# Altium integrated library Linear Technology Power Management Switching Regulator LT1074-LT8705.IntLib: 2252 symbols (part 46 of 148)
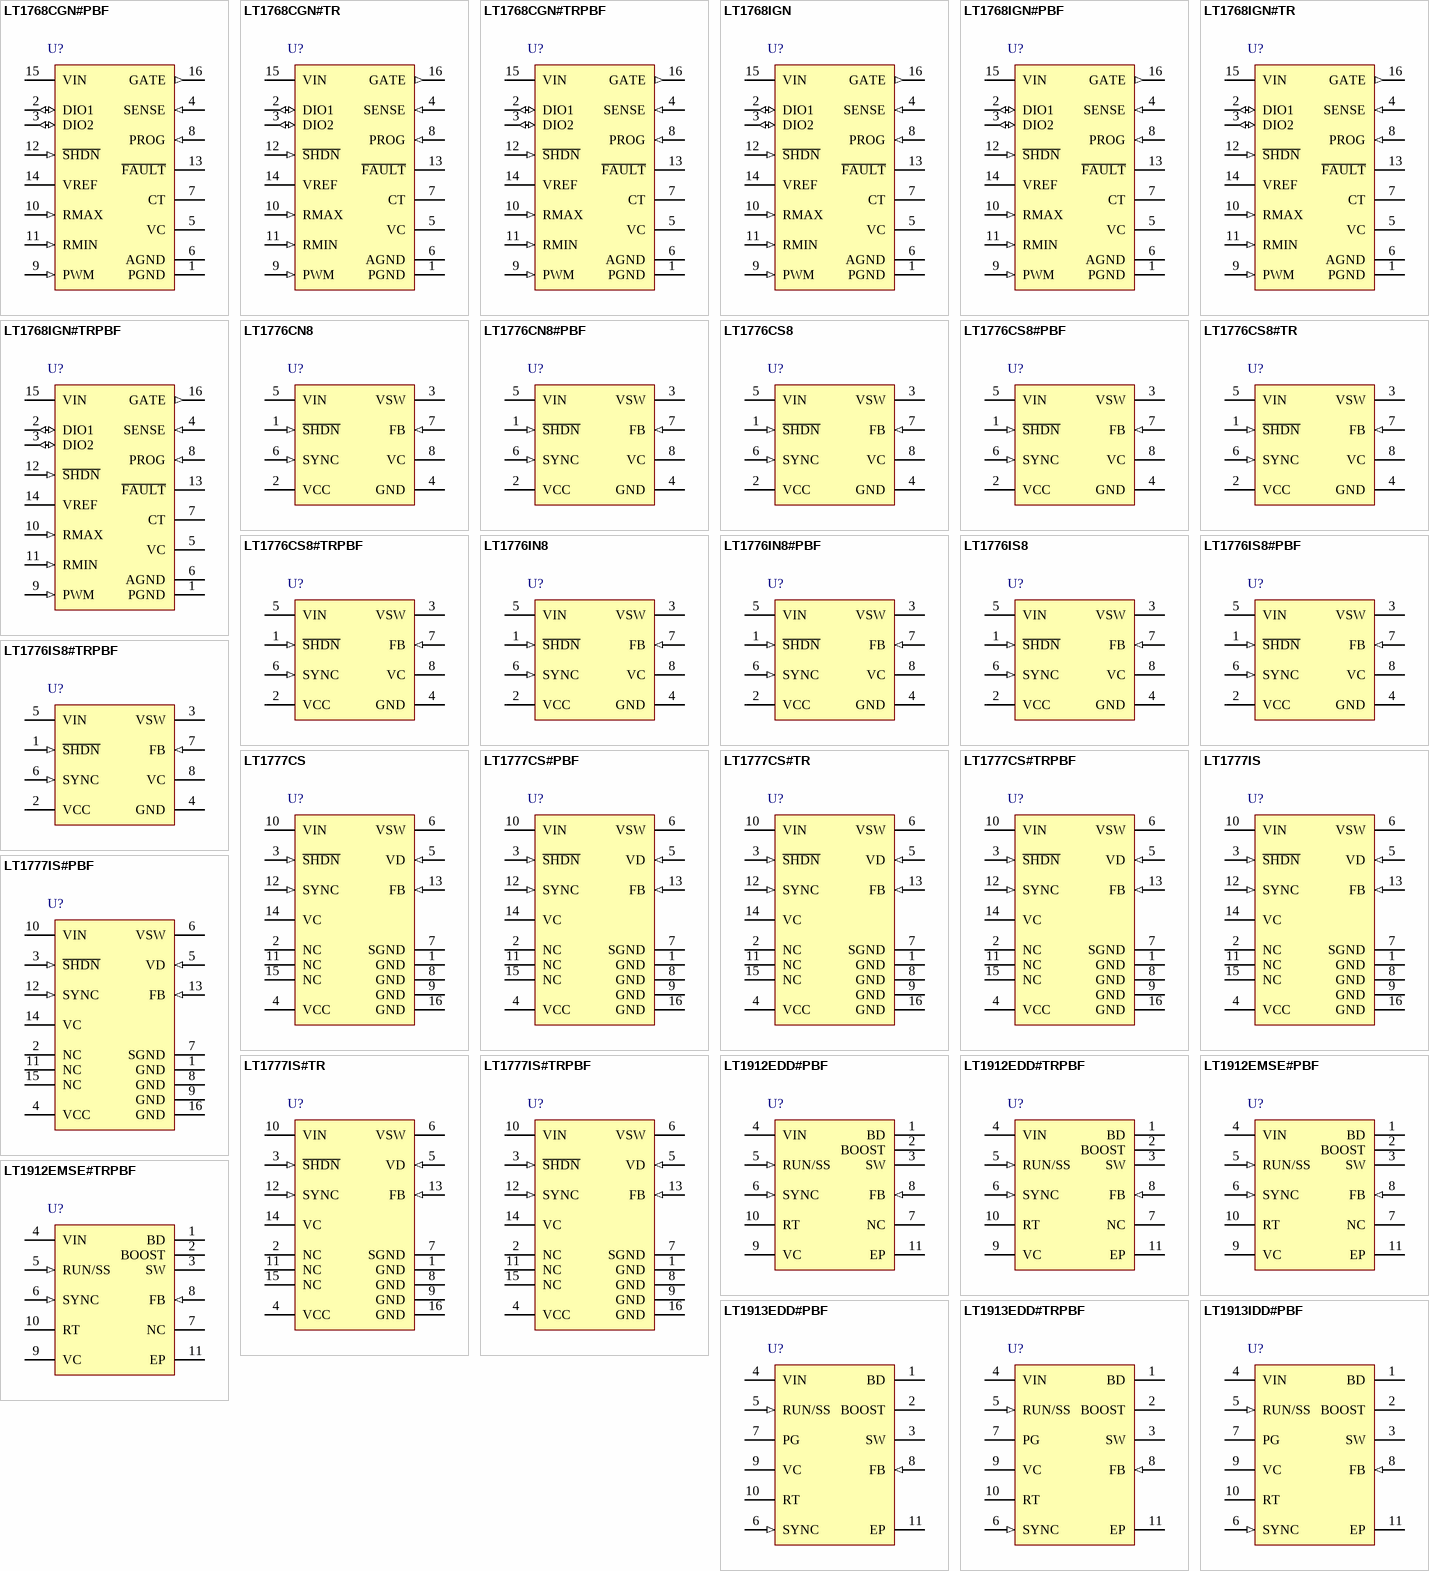
[diagram p116: symbols LT1768CGN#PBF to LT1913IDD#PBF]

## LT1768CGN#TR
designator U?
High Power CCFL Controller for Wide Dimming Range and Maximum Lamp Lifetime Max, 16-pin SOP (GN-16), 0 to 125 degC, Tape and Reel; Manufacturer: Linear Technology; PartNumber: LT1768CGN#TR; Number of Outputs: 1; PackageVersion: Rev. B, 03/2012; PackageReference: GN-16; PackageDescription: 16-Pin Plastic SSOP, Body 4.9 x 3.9 mm, Pitch 0.635 mm; Supplier 1: Digi-Key; Supplier Part Number 1: LT1768CGN#TR-ND; Packing: Tape and Reel; RoHS: FALSE; Mounting Technology: Surface Mount; ComponentLink1Description: Manufacturer URL; ComponentLink1URL: http://www.linear.com/; ComponentLink2Description: Datasheet; ComponentLink2URL: http://cds.linear.com/docs/en/datasheet/lt1768fs.pdf; ComponentLink3Description: Package Specification; ComponentLink3URL: http://cds.linear.com/docs/en/packaging/05081641_B_GN16.pdf
footprint LT-GN-16_N (SOP, 16-Leads, Body 5x4mm, Pitch 0.635mm, IPC Medium Density)
footprint LT-GN-16_L (SOP, 16-Leads, Body 5x4mm, Pitch 0.635mm, IPC High Density)
footprint LT-GN-16_M (SOP, 16-Leads, Body 5x4mm, Pitch 0.635mm, IPC Low Density)
pins: 1 PGND (power) "The PGND pin is the high current ground path. High switching current transients and lamp current flow through the PGND pin.", 2 DIO1 (io) "Each DIO pin is the common connection between the cathode and anode of two internal diodes. The remaining terminals of the diodes are connected to PGND. In a typical application, the DIO1/2 pins are connected to the low (See Datasheet)", 3 DIO2 (io) "Each DIO pin is the common connection between the cathode and anode of two internal diodes. The remaining terminals of the diodes are connected to PGND. In a typical application, the DIO1/2 pins are connected to the low (See Datasheet)", 4 SENSE (in) "The SENSE pin is the input to the current sense comparator. The threshold of the comparator is a function of the voltage on the VC pin and the switch duty cycle. The maximum threshold is set at 100mV for duty cycle less than (See Datasheet)", 5 VC "The VC pin is the summing junction for the programming current and the half wave rectified lamp current and is also an input to the current sense comparator . A fraction of the voltage on the VC pin is compared to the (See Datasheet)", 6 AGND (power) "The AGND pin is the low current analog ground. It is the negative sense terminal for the internal reference and current sense amplifier. Connect critical external components that terminate to ground directly to this pin for (See Datasheet)", 7 CT "The value of capacitance on the CT pin determines the PWM modulation frequency. The transfer function of capacitance to frequency equals 22Hz/CT(uF). The frequency present on the CT pin also determines the maximum time (See Datasheet)", 8 PROG (in) "The PROG pin controls the lamp current by converting a DC input voltage range of 0V to 5V to source current into the VC pin. The transfer function from programming voltage to VC current is illustrated in the following table.", 9 PWM (in) "The PWM pin controls the percentage of the PROG range between 1V and 4V that is to be pulse width modulated. The percentage is defined by [(VPWM-1)/ 3] ?100%. The minimum and maximum percentages are 25% (1.75V) and 100(See Datasheet)", 10 RMAX (in) "The RMAX pin outputs a regulated voltage of 1.25V that is to be loaded with an external resistor. The current through the external resistor sets the maximum lamp current. Maximum lamp current in a dual lamp application will (See Datasheet)", 11 RMIN (in) "The RMIN pin outputs a regulated voltage of 1.26V that is to be loaded with an external resistor. The current through the external resistor sets the minimum lamp current. Minimum lamp current in a dual lamp application will (See Datasheet)", 12 ~{SHDN} (in) "The S\H\D\N\ pin controls the operation of the LT1768. Pulling the S\H\D\N\ pin above 1.26V or leaving the pin open will result in normal operation of the LT1768. Pulling the S\H\D\N\ pin below 1V causes a complete shutdown (See Datasheet)", 13 ~{FAULT} (oc) "The F\A\U\L\T\ pin is an open collector output with a sink capability of 1mA that is activated when lamp current falls below 125uA in either DIO1 or DIO2 for at least 1 full PWM cycle.", 14 VREF (power) "The VREF pin is a regulated 5V output that is derived from the VIN pin. The regulated voltage provides up to 10mA of current to power external circuitry. During undervoltage lockout, shutdown mode or thermal shutdown, drive (See Datasheet)", 15 VIN (power) "The VIN pin is the voltage supply pin for the LT1768. For normal operation, the VIN pin must be above an undervoltage lockout of 7.9V and below a maximum of 24V.", 16 GATE (out) "The GATE pin is the output of a NPN high current output stage used to drive the gate of an external MOSFET. It has a dynamic source and sink capability of 1.5A. During normal operation, the GATE pin is driven high at the (See Datasheet)"

## LT1768CGN#TRPBF
designator U?
High Power CCFL Controller for Wide Dimming Range and Maximum Lamp Lifetime Max, 16-pin SOP (GN-16), 0 to 125 degC, Pb-Free, Tape and Reel; Manufacturer: Linear Technology; PartNumber: LT1768CGN#TRPBF; Number of Outputs: 1; PackageVersion: Rev. B, 03/2012; PackageReference: GN-16; PackageDescription: 16-Pin Plastic SSOP, Body 4.9 x 3.9 mm, Pitch 0.635 mm; Supplier 1: Digi-Key; Supplier Part Number 1: LT1768CGN#TRPBF-ND; Packing: Tape and Reel; RoHS: TRUE; Mounting Technology: Surface Mount; ComponentLink1Description: Manufacturer URL; ComponentLink1URL: http://www.linear.com/; ComponentLink2Description: Datasheet; ComponentLink2URL: http://cds.linear.com/docs/en/datasheet/lt1768fs.pdf; ComponentLink3Description: Package Specification; ComponentLink3URL: http://cds.linear.com/docs/en/packaging/05081641_B_GN16.pdf
footprint LT-GN-16_N (SOP, 16-Leads, Body 5x4mm, Pitch 0.635mm, IPC Medium Density)
footprint LT-GN-16_L (SOP, 16-Leads, Body 5x4mm, Pitch 0.635mm, IPC High Density)
footprint LT-GN-16_M (SOP, 16-Leads, Body 5x4mm, Pitch 0.635mm, IPC Low Density)
pins: 1 PGND (power) "The PGND pin is the high current ground path. High switching current transients and lamp current flow through the PGND pin.", 2 DIO1 (io) "Each DIO pin is the common connection between the cathode and anode of two internal diodes. The remaining terminals of the diodes are connected to PGND. In a typical application, the DIO1/2 pins are connected to the low (See Datasheet)", 3 DIO2 (io) "Each DIO pin is the common connection between the cathode and anode of two internal diodes. The remaining terminals of the diodes are connected to PGND. In a typical application, the DIO1/2 pins are connected to the low (See Datasheet)", 4 SENSE (in) "The SENSE pin is the input to the current sense comparator. The threshold of the comparator is a function of the voltage on the VC pin and the switch duty cycle. The maximum threshold is set at 100mV for duty cycle less than (See Datasheet)", 5 VC "The VC pin is the summing junction for the programming current and the half wave rectified lamp current and is also an input to the current sense comparator . A fraction of the voltage on the VC pin is compared to the (See Datasheet)", 6 AGND (power) "The AGND pin is the low current analog ground. It is the negative sense terminal for the internal reference and current sense amplifier. Connect critical external components that terminate to ground directly to this pin for (See Datasheet)", 7 CT "The value of capacitance on the CT pin determines the PWM modulation frequency. The transfer function of capacitance to frequency equals 22Hz/CT(uF). The frequency present on the CT pin also determines the maximum time (See Datasheet)", 8 PROG (in) "The PROG pin controls the lamp current by converting a DC input voltage range of 0V to 5V to source current into the VC pin. The transfer function from programming voltage to VC current is illustrated in the following table.", 9 PWM (in) "The PWM pin controls the percentage of the PROG range between 1V and 4V that is to be pulse width modulated. The percentage is defined by [(VPWM-1)/ 3] ?100%. The minimum and maximum percentages are 25% (1.75V) and 100(See Datasheet)", 10 RMAX (in) "The RMAX pin outputs a regulated voltage of 1.25V that is to be loaded with an external resistor. The current through the external resistor sets the maximum lamp current. Maximum lamp current in a dual lamp application will (See Datasheet)", 11 RMIN (in) "The RMIN pin outputs a regulated voltage of 1.26V that is to be loaded with an external resistor. The current through the external resistor sets the minimum lamp current. Minimum lamp current in a dual lamp application will (See Datasheet)", 12 ~{SHDN} (in) "The S\H\D\N\ pin controls the operation of the LT1768. Pulling the S\H\D\N\ pin above 1.26V or leaving the pin open will result in normal operation of the LT1768. Pulling the S\H\D\N\ pin below 1V causes a complete shutdown (See Datasheet)", 13 ~{FAULT} (oc) "The F\A\U\L\T\ pin is an open collector output with a sink capability of 1mA that is activated when lamp current falls below 125uA in either DIO1 or DIO2 for at least 1 full PWM cycle.", 14 VREF (power) "The VREF pin is a regulated 5V output that is derived from the VIN pin. The regulated voltage provides up to 10mA of current to power external circuitry. During undervoltage lockout, shutdown mode or thermal shutdown, drive (See Datasheet)", 15 VIN (power) "The VIN pin is the voltage supply pin for the LT1768. For normal operation, the VIN pin must be above an undervoltage lockout of 7.9V and below a maximum of 24V.", 16 GATE (out) "The GATE pin is the output of a NPN high current output stage used to drive the gate of an external MOSFET. It has a dynamic source and sink capability of 1.5A. During normal operation, the GATE pin is driven high at the (See Datasheet)"

## LT1768IGN
designator U?
High Power CCFL Controller for Wide Dimming Range and Maximum Lamp Lifetime Max, 16-pin SOP (GN-16), -40 to 125 degC; Manufacturer: Linear Technology; PartNumber: LT1768IGN; Number of Outputs: 1; PackageVersion: Rev. B, 03/2012; PackageReference: GN-16; PackageDescription: 16-Pin Plastic SSOP, Body 4.9 x 3.9 mm, Pitch 0.635 mm; Supplier 1: Digi-Key; Supplier Part Number 1: LT1768IGN-ND; RoHS: FALSE; Mounting Technology: Surface Mount; ComponentLink1Description: Manufacturer URL; ComponentLink1URL: http://www.linear.com/; ComponentLink2Description: Datasheet; ComponentLink2URL: http://cds.linear.com/docs/en/datasheet/lt1768fs.pdf; ComponentLink3Description: Package Specification; ComponentLink3URL: http://cds.linear.com/docs/en/packaging/05081641_B_GN16.pdf
footprint LT-GN-16_N (SOP, 16-Leads, Body 5x4mm, Pitch 0.635mm, IPC Medium Density)
footprint LT-GN-16_L (SOP, 16-Leads, Body 5x4mm, Pitch 0.635mm, IPC High Density)
footprint LT-GN-16_M (SOP, 16-Leads, Body 5x4mm, Pitch 0.635mm, IPC Low Density)
pins: 1 PGND (power) "The PGND pin is the high current ground path. High switching current transients and lamp current flow through the PGND pin.", 2 DIO1 (io) "Each DIO pin is the common connection between the cathode and anode of two internal diodes. The remaining terminals of the diodes are connected to PGND. In a typical application, the DIO1/2 pins are connected to the low (See Datasheet)", 3 DIO2 (io) "Each DIO pin is the common connection between the cathode and anode of two internal diodes. The remaining terminals of the diodes are connected to PGND. In a typical application, the DIO1/2 pins are connected to the low (See Datasheet)", 4 SENSE (in) "The SENSE pin is the input to the current sense comparator. The threshold of the comparator is a function of the voltage on the VC pin and the switch duty cycle. The maximum threshold is set at 100mV for duty cycle less than (See Datasheet)", 5 VC "The VC pin is the summing junction for the programming current and the half wave rectified lamp current and is also an input to the current sense comparator . A fraction of the voltage on the VC pin is compared to the (See Datasheet)", 6 AGND (power) "The AGND pin is the low current analog ground. It is the negative sense terminal for the internal reference and current sense amplifier. Connect critical external components that terminate to ground directly to this pin for (See Datasheet)", 7 CT "The value of capacitance on the CT pin determines the PWM modulation frequency. The transfer function of capacitance to frequency equals 22Hz/CT(uF). The frequency present on the CT pin also determines the maximum time (See Datasheet)", 8 PROG (in) "The PROG pin controls the lamp current by converting a DC input voltage range of 0V to 5V to source current into the VC pin. The transfer function from programming voltage to VC current is illustrated in the following table.", 9 PWM (in) "The PWM pin controls the percentage of the PROG range between 1V and 4V that is to be pulse width modulated. The percentage is defined by [(VPWM-1)/ 3] ?100%. The minimum and maximum percentages are 25% (1.75V) and 100(See Datasheet)", 10 RMAX (in) "The RMAX pin outputs a regulated voltage of 1.25V that is to be loaded with an external resistor. The current through the external resistor sets the maximum lamp current. Maximum lamp current in a dual lamp application will (See Datasheet)", 11 RMIN (in) "The RMIN pin outputs a regulated voltage of 1.26V that is to be loaded with an external resistor. The current through the external resistor sets the minimum lamp current. Minimum lamp current in a dual lamp application will (See Datasheet)", 12 ~{SHDN} (in) "The S\H\D\N\ pin controls the operation of the LT1768. Pulling the S\H\D\N\ pin above 1.26V or leaving the pin open will result in normal operation of the LT1768. Pulling the S\H\D\N\ pin below 1V causes a complete shutdown (See Datasheet)", 13 ~{FAULT} (oc) "The F\A\U\L\T\ pin is an open collector output with a sink capability of 1mA that is activated when lamp current falls below 125uA in either DIO1 or DIO2 for at least 1 full PWM cycle.", 14 VREF (power) "The VREF pin is a regulated 5V output that is derived from the VIN pin. The regulated voltage provides up to 10mA of current to power external circuitry. During undervoltage lockout, shutdown mode or thermal shutdown, drive (See Datasheet)", 15 VIN (power) "The VIN pin is the voltage supply pin for the LT1768. For normal operation, the VIN pin must be above an undervoltage lockout of 7.9V and below a maximum of 24V.", 16 GATE (out) "The GATE pin is the output of a NPN high current output stage used to drive the gate of an external MOSFET. It has a dynamic source and sink capability of 1.5A. During normal operation, the GATE pin is driven high at the (See Datasheet)"

## LT1768IGN#PBF
designator U?
High Power CCFL Controller for Wide Dimming Range and Maximum Lamp Lifetime Max, 16-pin SOP (GN-16), -40 to 125 degC, Pb-Free; Manufacturer: Linear Technology; PartNumber: LT1768IGN#PBF; Number of Outputs: 1; PackageVersion: Rev. B, 03/2012; PackageReference: GN-16; PackageDescription: 16-Pin Plastic SSOP, Body 4.9 x 3.9 mm, Pitch 0.635 mm; Supplier 1: Digi-Key; Supplier Part Number 1: LT1768IGN#PBF-ND; Supplier 2: Newark; Supplier Part Number 2: 57M6286; RoHS: TRUE; Mounting Technology: Surface Mount; ComponentLink1Description: Manufacturer URL; ComponentLink1URL: http://www.linear.com/; ComponentLink2Description: Datasheet; ComponentLink2URL: http://cds.linear.com/docs/en/datasheet/lt1768fs.pdf; ComponentLink3Description: Package Specification; ComponentLink3URL: http://cds.linear.com/docs/en/packaging/05081641_B_GN16.pdf
footprint LT-GN-16_N (SOP, 16-Leads, Body 5x4mm, Pitch 0.635mm, IPC Medium Density)
footprint LT-GN-16_L (SOP, 16-Leads, Body 5x4mm, Pitch 0.635mm, IPC High Density)
footprint LT-GN-16_M (SOP, 16-Leads, Body 5x4mm, Pitch 0.635mm, IPC Low Density)
pins: 1 PGND (power) "The PGND pin is the high current ground path. High switching current transients and lamp current flow through the PGND pin.", 2 DIO1 (io) "Each DIO pin is the common connection between the cathode and anode of two internal diodes. The remaining terminals of the diodes are connected to PGND. In a typical application, the DIO1/2 pins are connected to the low (See Datasheet)", 3 DIO2 (io) "Each DIO pin is the common connection between the cathode and anode of two internal diodes. The remaining terminals of the diodes are connected to PGND. In a typical application, the DIO1/2 pins are connected to the low (See Datasheet)", 4 SENSE (in) "The SENSE pin is the input to the current sense comparator. The threshold of the comparator is a function of the voltage on the VC pin and the switch duty cycle. The maximum threshold is set at 100mV for duty cycle less than (See Datasheet)", 5 VC "The VC pin is the summing junction for the programming current and the half wave rectified lamp current and is also an input to the current sense comparator . A fraction of the voltage on the VC pin is compared to the (See Datasheet)", 6 AGND (power) "The AGND pin is the low current analog ground. It is the negative sense terminal for the internal reference and current sense amplifier. Connect critical external components that terminate to ground directly to this pin for (See Datasheet)", 7 CT "The value of capacitance on the CT pin determines the PWM modulation frequency. The transfer function of capacitance to frequency equals 22Hz/CT(uF). The frequency present on the CT pin also determines the maximum time (See Datasheet)", 8 PROG (in) "The PROG pin controls the lamp current by converting a DC input voltage range of 0V to 5V to source current into the VC pin. The transfer function from programming voltage to VC current is illustrated in the following table.", 9 PWM (in) "The PWM pin controls the percentage of the PROG range between 1V and 4V that is to be pulse width modulated. The percentage is defined by [(VPWM-1)/ 3] ?100%. The minimum and maximum percentages are 25% (1.75V) and 100(See Datasheet)", 10 RMAX (in) "The RMAX pin outputs a regulated voltage of 1.25V that is to be loaded with an external resistor. The current through the external resistor sets the maximum lamp current. Maximum lamp current in a dual lamp application will (See Datasheet)", 11 RMIN (in) "The RMIN pin outputs a regulated voltage of 1.26V that is to be loaded with an external resistor. The current through the external resistor sets the minimum lamp current. Minimum lamp current in a dual lamp application will (See Datasheet)", 12 ~{SHDN} (in) "The S\H\D\N\ pin controls the operation of the LT1768. Pulling the S\H\D\N\ pin above 1.26V or leaving the pin open will result in normal operation of the LT1768. Pulling the S\H\D\N\ pin below 1V causes a complete shutdown (See Datasheet)", 13 ~{FAULT} (oc) "The F\A\U\L\T\ pin is an open collector output with a sink capability of 1mA that is activated when lamp current falls below 125uA in either DIO1 or DIO2 for at least 1 full PWM cycle.", 14 VREF (power) "The VREF pin is a regulated 5V output that is derived from the VIN pin. The regulated voltage provides up to 10mA of current to power external circuitry. During undervoltage lockout, shutdown mode or thermal shutdown, drive (See Datasheet)", 15 VIN (power) "The VIN pin is the voltage supply pin for the LT1768. For normal operation, the VIN pin must be above an undervoltage lockout of 7.9V and below a maximum of 24V.", 16 GATE (out) "The GATE pin is the output of a NPN high current output stage used to drive the gate of an external MOSFET. It has a dynamic source and sink capability of 1.5A. During normal operation, the GATE pin is driven high at the (See Datasheet)"

## LT1768IGN#TR
designator U?
High Power CCFL Controller for Wide Dimming Range and Maximum Lamp Lifetime Max, 16-pin SOP (GN-16), -40 to 125 degC, Tape and Reel; Manufacturer: Linear Technology; PartNumber: LT1768IGN#TR; Number of Outputs: 1; PackageVersion: Rev. B, 03/2012; PackageReference: GN-16; PackageDescription: 16-Pin Plastic SSOP, Body 4.9 x 3.9 mm, Pitch 0.635 mm; Supplier 1: Digi-Key; Supplier Part Number 1: LT1768IGN#TR-ND; Packing: Tape and Reel; RoHS: FALSE; Mounting Technology: Surface Mount; ComponentLink1Description: Manufacturer URL; ComponentLink1URL: http://www.linear.com/; ComponentLink2Description: Datasheet; ComponentLink2URL: http://cds.linear.com/docs/en/datasheet/lt1768fs.pdf; ComponentLink3Description: Package Specification; ComponentLink3URL: http://cds.linear.com/docs/en/packaging/05081641_B_GN16.pdf
footprint LT-GN-16_N (SOP, 16-Leads, Body 5x4mm, Pitch 0.635mm, IPC Medium Density)
footprint LT-GN-16_L (SOP, 16-Leads, Body 5x4mm, Pitch 0.635mm, IPC High Density)
footprint LT-GN-16_M (SOP, 16-Leads, Body 5x4mm, Pitch 0.635mm, IPC Low Density)
pins: 1 PGND (power) "The PGND pin is the high current ground path. High switching current transients and lamp current flow through the PGND pin.", 2 DIO1 (io) "Each DIO pin is the common connection between the cathode and anode of two internal diodes. The remaining terminals of the diodes are connected to PGND. In a typical application, the DIO1/2 pins are connected to the low (See Datasheet)", 3 DIO2 (io) "Each DIO pin is the common connection between the cathode and anode of two internal diodes. The remaining terminals of the diodes are connected to PGND. In a typical application, the DIO1/2 pins are connected to the low (See Datasheet)", 4 SENSE (in) "The SENSE pin is the input to the current sense comparator. The threshold of the comparator is a function of the voltage on the VC pin and the switch duty cycle. The maximum threshold is set at 100mV for duty cycle less than (See Datasheet)", 5 VC "The VC pin is the summing junction for the programming current and the half wave rectified lamp current and is also an input to the current sense comparator . A fraction of the voltage on the VC pin is compared to the (See Datasheet)", 6 AGND (power) "The AGND pin is the low current analog ground. It is the negative sense terminal for the internal reference and current sense amplifier. Connect critical external components that terminate to ground directly to this pin for (See Datasheet)", 7 CT "The value of capacitance on the CT pin determines the PWM modulation frequency. The transfer function of capacitance to frequency equals 22Hz/CT(uF). The frequency present on the CT pin also determines the maximum time (See Datasheet)", 8 PROG (in) "The PROG pin controls the lamp current by converting a DC input voltage range of 0V to 5V to source current into the VC pin. The transfer function from programming voltage to VC current is illustrated in the following table.", 9 PWM (in) "The PWM pin controls the percentage of the PROG range between 1V and 4V that is to be pulse width modulated. The percentage is defined by [(VPWM-1)/ 3] ?100%. The minimum and maximum percentages are 25% (1.75V) and 100(See Datasheet)", 10 RMAX (in) "The RMAX pin outputs a regulated voltage of 1.25V that is to be loaded with an external resistor. The current through the external resistor sets the maximum lamp current. Maximum lamp current in a dual lamp application will (See Datasheet)", 11 RMIN (in) "The RMIN pin outputs a regulated voltage of 1.26V that is to be loaded with an external resistor. The current through the external resistor sets the minimum lamp current. Minimum lamp current in a dual lamp application will (See Datasheet)", 12 ~{SHDN} (in) "The S\H\D\N\ pin controls the operation of the LT1768. Pulling the S\H\D\N\ pin above 1.26V or leaving the pin open will result in normal operation of the LT1768. Pulling the S\H\D\N\ pin below 1V causes a complete shutdown (See Datasheet)", 13 ~{FAULT} (oc) "The F\A\U\L\T\ pin is an open collector output with a sink capability of 1mA that is activated when lamp current falls below 125uA in either DIO1 or DIO2 for at least 1 full PWM cycle.", 14 VREF (power) "The VREF pin is a regulated 5V output that is derived from the VIN pin. The regulated voltage provides up to 10mA of current to power external circuitry. During undervoltage lockout, shutdown mode or thermal shutdown, drive (See Datasheet)", 15 VIN (power) "The VIN pin is the voltage supply pin for the LT1768. For normal operation, the VIN pin must be above an undervoltage lockout of 7.9V and below a maximum of 24V.", 16 GATE (out) "The GATE pin is the output of a NPN high current output stage used to drive the gate of an external MOSFET. It has a dynamic source and sink capability of 1.5A. During normal operation, the GATE pin is driven high at the (See Datasheet)"

## LT1768IGN#TRPBF
designator U?
High Power CCFL Controller for Wide Dimming Range and Maximum Lamp Lifetime Max, 16-pin SOP (GN-16), -40 to 125 degC, Pb-Free, Tape and Reel; Manufacturer: Linear Technology; PartNumber: LT1768IGN#TRPBF; Number of Outputs: 1; PackageVersion: Rev. B, 03/2012; PackageReference: GN-16; PackageDescription: 16-Pin Plastic SSOP, Body 4.9 x 3.9 mm, Pitch 0.635 mm; Supplier 1: Digi-Key; Supplier Part Number 1: LT1768IGN#TRPBF-ND; Packing: Tape and Reel; RoHS: TRUE; Mounting Technology: Surface Mount; ComponentLink1Description: Manufacturer URL; ComponentLink1URL: http://www.linear.com/; ComponentLink2Description: Datasheet; ComponentLink2URL: http://cds.linear.com/docs/en/datasheet/lt1768fs.pdf; ComponentLink3Description: Package Specification; ComponentLink3URL: http://cds.linear.com/docs/en/packaging/05081641_B_GN16.pdf
footprint LT-GN-16_N (SOP, 16-Leads, Body 5x4mm, Pitch 0.635mm, IPC Medium Density)
footprint LT-GN-16_L (SOP, 16-Leads, Body 5x4mm, Pitch 0.635mm, IPC High Density)
footprint LT-GN-16_M (SOP, 16-Leads, Body 5x4mm, Pitch 0.635mm, IPC Low Density)
pins: 1 PGND (power) "The PGND pin is the high current ground path. High switching current transients and lamp current flow through the PGND pin.", 2 DIO1 (io) "Each DIO pin is the common connection between the cathode and anode of two internal diodes. The remaining terminals of the diodes are connected to PGND. In a typical application, the DIO1/2 pins are connected to the low (See Datasheet)", 3 DIO2 (io) "Each DIO pin is the common connection between the cathode and anode of two internal diodes. The remaining terminals of the diodes are connected to PGND. In a typical application, the DIO1/2 pins are connected to the low (See Datasheet)", 4 SENSE (in) "The SENSE pin is the input to the current sense comparator. The threshold of the comparator is a function of the voltage on the VC pin and the switch duty cycle. The maximum threshold is set at 100mV for duty cycle less than (See Datasheet)", 5 VC "The VC pin is the summing junction for the programming current and the half wave rectified lamp current and is also an input to the current sense comparator . A fraction of the voltage on the VC pin is compared to the (See Datasheet)", 6 AGND (power) "The AGND pin is the low current analog ground. It is the negative sense terminal for the internal reference and current sense amplifier. Connect critical external components that terminate to ground directly to this pin for (See Datasheet)", 7 CT "The value of capacitance on the CT pin determines the PWM modulation frequency. The transfer function of capacitance to frequency equals 22Hz/CT(uF). The frequency present on the CT pin also determines the maximum time (See Datasheet)", 8 PROG (in) "The PROG pin controls the lamp current by converting a DC input voltage range of 0V to 5V to source current into the VC pin. The transfer function from programming voltage to VC current is illustrated in the following table.", 9 PWM (in) "The PWM pin controls the percentage of the PROG range between 1V and 4V that is to be pulse width modulated. The percentage is defined by [(VPWM-1)/ 3] ?100%. The minimum and maximum percentages are 25% (1.75V) and 100(See Datasheet)", 10 RMAX (in) "The RMAX pin outputs a regulated voltage of 1.25V that is to be loaded with an external resistor. The current through the external resistor sets the maximum lamp current. Maximum lamp current in a dual lamp application will (See Datasheet)", 11 RMIN (in) "The RMIN pin outputs a regulated voltage of 1.26V that is to be loaded with an external resistor. The current through the external resistor sets the minimum lamp current. Minimum lamp current in a dual lamp application will (See Datasheet)", 12 ~{SHDN} (in) "The S\H\D\N\ pin controls the operation of the LT1768. Pulling the S\H\D\N\ pin above 1.26V or leaving the pin open will result in normal operation of the LT1768. Pulling the S\H\D\N\ pin below 1V causes a complete shutdown (See Datasheet)", 13 ~{FAULT} (oc) "The F\A\U\L\T\ pin is an open collector output with a sink capability of 1mA that is activated when lamp current falls below 125uA in either DIO1 or DIO2 for at least 1 full PWM cycle.", 14 VREF (power) "The VREF pin is a regulated 5V output that is derived from the VIN pin. The regulated voltage provides up to 10mA of current to power external circuitry. During undervoltage lockout, shutdown mode or thermal shutdown, drive (See Datasheet)", 15 VIN (power) "The VIN pin is the voltage supply pin for the LT1768. For normal operation, the VIN pin must be above an undervoltage lockout of 7.9V and below a maximum of 24V.", 16 GATE (out) "The GATE pin is the output of a NPN high current output stage used to drive the gate of an external MOSFET. It has a dynamic source and sink capability of 1.5A. During normal operation, the GATE pin is driven high at the (See Datasheet)"

## LT1776CN8
designator U?
Wide Input Range, High Efficiency, Step-Down Switching Regulator, 8-pin DIP (N8-8), 0 to 125 degC; Manufacturer: Linear Technology; PartNumber: LT1776CN8; Frequency Sync Range: 250kHz - 400kHz; Number of Outputs: 1; Over Voltage Protection(V): 60; PackageVersion: Rev. I, 07/2011; PackageReference: N8-8; PackageDescription: 8-Pin PDIP, Body 10.16 x 6.48 mm, Pitch 2.54 mm; Supplier 1: Digi-Key; Supplier Part Number 1: LT1776CN8-ND; RoHS: FALSE; Mounting Technology: Through Hole; ComponentLink1Description: Manufacturer URL; ComponentLink1URL: http://www.linear.com/; ComponentLink2Description: Datasheet; ComponentLink2URL: http://cds.linear.com/docs/en/datasheet/1776fs.pdf; ComponentLink3Description: Package Specification; ComponentLink3URL: http://www.linear.com/docs/en/packaging/05081510_I_N8.pdf
footprint LT-N8-8 (DIP, 8-Leads, Body 10.15x6.85mm, Pitch 2.54mm)
pins: 1 ~{SHDN} (in) "When pulled below the shutdown mode threshold, nominally 0.30V, this pin turns off the regulator and reduces VIN input current to a few tens of microamperes (shutdown mode).", 2 VCC (power) "This pin is used to power the internal control circuitry off of the switching supply output. Proper use of this pin enhances overall power supply efficiency. During start-up conditions, internal control circuitry is powered (See Datasheet)", 3 VSW (power) "This is the emitter node of the output switch and has large currents flowing through it. This node moves at a high dV/dt rate, especially when in “boost” mode. Keep the traces to the switching components as short(See Datasheet)", 4 GND (power) "This is the device ground pin. The internal reference and feedback amplifier are referred to it. Keep the ground path connection to the FB divider and the VC compensation capacitor free of large ground currents.", 5 VIN (power) "This is the high voltage supply pin for the output switch. It also supplies power to the internal control circuitry during start-up conditions or if the VCC pin is left open. A high quality bypass capacitor which meets the (See Datasheet)", 6 SYNC (in) "Pin used to synchronize internal oscillator to the external frequency reference. It is directly logic compatible and can be driven with any signal between 10% and 90% duty cycle. The sync function is internally disabled if (See Datasheet)", 7 FB (in) "This is the inverting input to the feedback amplifier. The noninverting input of this amplifier is internally tied to the 1.24V reference. This pin also slows down the frequency of the internal oscillator when its voltage is (See Datasheet)", 8 VC "This is the control voltage pin which is the output of the feedback amplifier and the input of the current comparator. Frequency compensation of the overall loop is effected by placing a capacitor, (or in most cases a series (See Datasheet)"

## LT1776CN8#PBF
designator U?
Wide Input Range, High Efficiency, Step-Down Switching Regulator, 8-pin DIP (N8-8), 0 to 125 degC, Pb-Free; Manufacturer: Linear Technology; PartNumber: LT1776CN8#PBF; Frequency Sync Range: 250kHz - 400kHz; Number of Outputs: 1; Over Voltage Protection(V): 60; PackageVersion: Rev. I, 07/2011; PackageReference: N8-8; PackageDescription: 8-Pin PDIP, Body 10.16 x 6.48 mm, Pitch 2.54 mm; Supplier 1: Digi-Key; Supplier Part Number 1: LT1776CN8#PBF-ND; Supplier 2: Farnell; Supplier Part Number 2: 1663492; RoHS: TRUE; Mounting Technology: Through Hole; ComponentLink1Description: Manufacturer URL; ComponentLink1URL: http://www.linear.com/; ComponentLink2Description: Datasheet; ComponentLink2URL: http://cds.linear.com/docs/en/datasheet/1776fs.pdf; ComponentLink3Description: Package Specification; ComponentLink3URL: http://www.linear.com/docs/en/packaging/05081510_I_N8.pdf
footprint LT-N8-8 (DIP, 8-Leads, Body 10.15x6.85mm, Pitch 2.54mm)
pins: 1 ~{SHDN} (in) "When pulled below the shutdown mode threshold, nominally 0.30V, this pin turns off the regulator and reduces VIN input current to a few tens of microamperes (shutdown mode).", 2 VCC (power) "This pin is used to power the internal control circuitry off of the switching supply output. Proper use of this pin enhances overall power supply efficiency. During start-up conditions, internal control circuitry is powered (See Datasheet)", 3 VSW (power) "This is the emitter node of the output switch and has large currents flowing through it. This node moves at a high dV/dt rate, especially when in “boost” mode. Keep the traces to the switching components as short(See Datasheet)", 4 GND (power) "This is the device ground pin. The internal reference and feedback amplifier are referred to it. Keep the ground path connection to the FB divider and the VC compensation capacitor free of large ground currents.", 5 VIN (power) "This is the high voltage supply pin for the output switch. It also supplies power to the internal control circuitry during start-up conditions or if the VCC pin is left open. A high quality bypass capacitor which meets the (See Datasheet)", 6 SYNC (in) "Pin used to synchronize internal oscillator to the external frequency reference. It is directly logic compatible and can be driven with any signal between 10% and 90% duty cycle. The sync function is internally disabled if (See Datasheet)", 7 FB (in) "This is the inverting input to the feedback amplifier. The noninverting input of this amplifier is internally tied to the 1.24V reference. This pin also slows down the frequency of the internal oscillator when its voltage is (See Datasheet)", 8 VC "This is the control voltage pin which is the output of the feedback amplifier and the input of the current comparator. Frequency compensation of the overall loop is effected by placing a capacitor, (or in most cases a series (See Datasheet)"

## LT1776CS8
designator U?
Wide Input Range, High Efficiency, Step-Down Switching Regulator, 8-pin SOIC (S8-8), 0 to 125 degC, Tape and Reel; Manufacturer: Linear Technology; PartNumber: LT1776CS8; Frequency Sync Range: 250kHz - 400kHz; Number of Outputs: 1; Over Voltage Protection(V): 60; PackageVersion: Rev. G, 03/2012; PackageReference: S8-8; PackageDescription: 8-Pin Plastic Small Outline (Narrow .150 Inch), Body 4.9 x 3.9 mm, Pitch 1.27 mm; Supplier 1: Digi-Key; Supplier Part Number 1: LT1776CS8-ND; Supplier 2: Newark; Supplier Part Number 2: 75M1845; RoHS: FALSE; Mounting Technology: Surface Mount; ComponentLink1Description: Manufacturer URL; ComponentLink1URL: http://www.linear.com/; ComponentLink2Description: Datasheet; ComponentLink2URL: http://cds.linear.com/docs/en/datasheet/1776fs.pdf; ComponentLink3Description: Package Specification; ComponentLink3URL: http://cds.linear.com/docs/en/packaging/05081610_G_SO8.pdf
footprint LT-S8-8_N (SOIC, 8-Leads, Body 5x4mm, Pitch 1.27mm, IPC Medium Density)
footprint LT-S8-8_L (SOIC, 8-Leads, Body 5x4mm, Pitch 1.27mm, IPC High Density)
footprint LT-S8-8_M (SOIC, 8-Leads, Body 5x4mm, Pitch 1.27mm, IPC Low Density)
pins: 1 ~{SHDN} (in) "When pulled below the shutdown mode threshold, nominally 0.30V, this pin turns off the regulator and reduces VIN input current to a few tens of microamperes (shutdown mode).", 2 VCC (power) "This pin is used to power the internal control circuitry off of the switching supply output. Proper use of this pin enhances overall power supply efficiency. During start-up conditions, internal control circuitry is powered (See Datasheet)", 3 VSW (power) "This is the emitter node of the output switch and has large currents flowing through it. This node moves at a high dV/dt rate, especially when in “boost” mode. Keep the traces to the switching components as short(See Datasheet)", 4 GND (power) "This is the device ground pin. The internal reference and feedback amplifier are referred to it. Keep the ground path connection to the FB divider and the VC compensation capacitor free of large ground currents.", 5 VIN (power) "This is the high voltage supply pin for the output switch. It also supplies power to the internal control circuitry during start-up conditions or if the VCC pin is left open. A high quality bypass capacitor which meets the (See Datasheet)", 6 SYNC (in) "Pin used to synchronize internal oscillator to the external frequency reference. It is directly logic compatible and can be driven with any signal between 10% and 90% duty cycle. The sync function is internally disabled if (See Datasheet)", 7 FB (in) "This is the inverting input to the feedback amplifier. The noninverting input of this amplifier is internally tied to the 1.24V reference. This pin also slows down the frequency of the internal oscillator when its voltage is (See Datasheet)", 8 VC "This is the control voltage pin which is the output of the feedback amplifier and the input of the current comparator. Frequency compensation of the overall loop is effected by placing a capacitor, (or in most cases a series (See Datasheet)"

## LT1776CS8#PBF
designator U?
Wide Input Range, High Efficiency, Step-Down Switching Regulator, 8-pin SOIC (S8-8), 0 to 125 degC, Pb-Free; Manufacturer: Linear Technology; PartNumber: LT1776CS8#PBF; Frequency Sync Range: 250kHz - 400kHz; Number of Outputs: 1; Over Voltage Protection(V): 60; PackageVersion: Rev. G, 03/2012; PackageReference: S8-8; PackageDescription: 8-Pin Plastic Small Outline (Narrow .150 Inch), Body 4.9 x 3.9 mm, Pitch 1.27 mm; Supplier 1: Digi-Key; Supplier Part Number 1: LT1776CS8#PBF-ND; Supplier 2: Farnell; Supplier Part Number 2: 1273789; Supplier 3: Newark; Supplier Part Number 3: 57M6291; RoHS: TRUE; Mounting Technology: Surface Mount; ComponentLink1Description: Manufacturer URL; ComponentLink1URL: http://www.linear.com/; ComponentLink2Description: Datasheet; ComponentLink2URL: http://cds.linear.com/docs/en/datasheet/1776fs.pdf; ComponentLink3Description: Package Specification; ComponentLink3URL: http://cds.linear.com/docs/en/packaging/05081610_G_SO8.pdf
footprint LT-S8-8_N (SOIC, 8-Leads, Body 5x4mm, Pitch 1.27mm, IPC Medium Density)
footprint LT-S8-8_L (SOIC, 8-Leads, Body 5x4mm, Pitch 1.27mm, IPC High Density)
footprint LT-S8-8_M (SOIC, 8-Leads, Body 5x4mm, Pitch 1.27mm, IPC Low Density)
pins: 1 ~{SHDN} (in) "When pulled below the shutdown mode threshold, nominally 0.30V, this pin turns off the regulator and reduces VIN input current to a few tens of microamperes (shutdown mode).", 2 VCC (power) "This pin is used to power the internal control circuitry off of the switching supply output. Proper use of this pin enhances overall power supply efficiency. During start-up conditions, internal control circuitry is powered (See Datasheet)", 3 VSW (power) "This is the emitter node of the output switch and has large currents flowing through it. This node moves at a high dV/dt rate, especially when in “boost” mode. Keep the traces to the switching components as short(See Datasheet)", 4 GND (power) "This is the device ground pin. The internal reference and feedback amplifier are referred to it. Keep the ground path connection to the FB divider and the VC compensation capacitor free of large ground currents.", 5 VIN (power) "This is the high voltage supply pin for the output switch. It also supplies power to the internal control circuitry during start-up conditions or if the VCC pin is left open. A high quality bypass capacitor which meets the (See Datasheet)", 6 SYNC (in) "Pin used to synchronize internal oscillator to the external frequency reference. It is directly logic compatible and can be driven with any signal between 10% and 90% duty cycle. The sync function is internally disabled if (See Datasheet)", 7 FB (in) "This is the inverting input to the feedback amplifier. The noninverting input of this amplifier is internally tied to the 1.24V reference. This pin also slows down the frequency of the internal oscillator when its voltage is (See Datasheet)", 8 VC "This is the control voltage pin which is the output of the feedback amplifier and the input of the current comparator. Frequency compensation of the overall loop is effected by placing a capacitor, (or in most cases a series (See Datasheet)"

## LT1776CS8#TR
designator U?
Wide Input Range, High Efficiency, Step-Down Switching Regulator, 8-pin SOIC (S8-8), 0 to 125 degC, Tape and Reel; Manufacturer: Linear Technology; PartNumber: LT1776CS8#TR; Frequency Sync Range: 250kHz - 400kHz; Number of Outputs: 1; Over Voltage Protection(V): 60; PackageVersion: Rev. G, 03/2012; PackageReference: S8-8; PackageDescription: 8-Pin Plastic Small Outline (Narrow .150 Inch), Body 4.9 x 3.9 mm, Pitch 1.27 mm; Supplier 1: Digi-Key; Supplier Part Number 1: LT1776CS8#TR-ND; Packing: Tape and Reel; RoHS: FALSE; Mounting Technology: Surface Mount; ComponentLink1Description: Manufacturer URL; ComponentLink1URL: http://www.linear.com/; ComponentLink2Description: Datasheet; ComponentLink2URL: http://cds.linear.com/docs/en/datasheet/1776fs.pdf; ComponentLink3Description: Package Specification; ComponentLink3URL: http://cds.linear.com/docs/en/packaging/05081610_G_SO8.pdf
footprint LT-S8-8_N (SOIC, 8-Leads, Body 5x4mm, Pitch 1.27mm, IPC Medium Density)
footprint LT-S8-8_L (SOIC, 8-Leads, Body 5x4mm, Pitch 1.27mm, IPC High Density)
footprint LT-S8-8_M (SOIC, 8-Leads, Body 5x4mm, Pitch 1.27mm, IPC Low Density)
pins: 1 ~{SHDN} (in) "When pulled below the shutdown mode threshold, nominally 0.30V, this pin turns off the regulator and reduces VIN input current to a few tens of microamperes (shutdown mode).", 2 VCC (power) "This pin is used to power the internal control circuitry off of the switching supply output. Proper use of this pin enhances overall power supply efficiency. During start-up conditions, internal control circuitry is powered (See Datasheet)", 3 VSW (power) "This is the emitter node of the output switch and has large currents flowing through it. This node moves at a high dV/dt rate, especially when in “boost” mode. Keep the traces to the switching components as short(See Datasheet)", 4 GND (power) "This is the device ground pin. The internal reference and feedback amplifier are referred to it. Keep the ground path connection to the FB divider and the VC compensation capacitor free of large ground currents.", 5 VIN (power) "This is the high voltage supply pin for the output switch. It also supplies power to the internal control circuitry during start-up conditions or if the VCC pin is left open. A high quality bypass capacitor which meets the (See Datasheet)", 6 SYNC (in) "Pin used to synchronize internal oscillator to the external frequency reference. It is directly logic compatible and can be driven with any signal between 10% and 90% duty cycle. The sync function is internally disabled if (See Datasheet)", 7 FB (in) "This is the inverting input to the feedback amplifier. The noninverting input of this amplifier is internally tied to the 1.24V reference. This pin also slows down the frequency of the internal oscillator when its voltage is (See Datasheet)", 8 VC "This is the control voltage pin which is the output of the feedback amplifier and the input of the current comparator. Frequency compensation of the overall loop is effected by placing a capacitor, (or in most cases a series (See Datasheet)"

## LT1776CS8#TRPBF
designator U?
Wide Input Range, High Efficiency, Step-Down Switching Regulator, 8-pin SOIC (S8-8), 0 to 125 degC, Pb-Free, Tape and Reel; Manufacturer: Linear Technology; PartNumber: LT1776CS8#TRPBF; Frequency Sync Range: 250kHz - 400kHz; Number of Outputs: 1; Over Voltage Protection(V): 60; PackageVersion: Rev. G, 03/2012; PackageReference: S8-8; PackageDescription: 8-Pin Plastic Small Outline (Narrow .150 Inch), Body 4.9 x 3.9 mm, Pitch 1.27 mm; Supplier 1: Digi-Key; Supplier Part Number 1: LT1776CS8#TRPBF-ND; Supplier 2: Newark; Supplier Part Number 2: 57M6293; Packing: Tape and Reel; RoHS: TRUE; Mounting Technology: Surface Mount; ComponentLink1Description: Manufacturer URL; ComponentLink1URL: http://www.linear.com/; ComponentLink2Description: Datasheet; ComponentLink2URL: http://cds.linear.com/docs/en/datasheet/1776fs.pdf; ComponentLink3Description: Package Specification; ComponentLink3URL: http://cds.linear.com/docs/en/packaging/05081610_G_SO8.pdf
footprint LT-S8-8_N (SOIC, 8-Leads, Body 5x4mm, Pitch 1.27mm, IPC Medium Density)
footprint LT-S8-8_L (SOIC, 8-Leads, Body 5x4mm, Pitch 1.27mm, IPC High Density)
footprint LT-S8-8_M (SOIC, 8-Leads, Body 5x4mm, Pitch 1.27mm, IPC Low Density)
pins: 1 ~{SHDN} (in) "When pulled below the shutdown mode threshold, nominally 0.30V, this pin turns off the regulator and reduces VIN input current to a few tens of microamperes (shutdown mode).", 2 VCC (power) "This pin is used to power the internal control circuitry off of the switching supply output. Proper use of this pin enhances overall power supply efficiency. During start-up conditions, internal control circuitry is powered (See Datasheet)", 3 VSW (power) "This is the emitter node of the output switch and has large currents flowing through it. This node moves at a high dV/dt rate, especially when in “boost” mode. Keep the traces to the switching components as short(See Datasheet)", 4 GND (power) "This is the device ground pin. The internal reference and feedback amplifier are referred to it. Keep the ground path connection to the FB divider and the VC compensation capacitor free of large ground currents.", 5 VIN (power) "This is the high voltage supply pin for the output switch. It also supplies power to the internal control circuitry during start-up conditions or if the VCC pin is left open. A high quality bypass capacitor which meets the (See Datasheet)", 6 SYNC (in) "Pin used to synchronize internal oscillator to the external frequency reference. It is directly logic compatible and can be driven with any signal between 10% and 90% duty cycle. The sync function is internally disabled if (See Datasheet)", 7 FB (in) "This is the inverting input to the feedback amplifier. The noninverting input of this amplifier is internally tied to the 1.24V reference. This pin also slows down the frequency of the internal oscillator when its voltage is (See Datasheet)", 8 VC "This is the control voltage pin which is the output of the feedback amplifier and the input of the current comparator. Frequency compensation of the overall loop is effected by placing a capacitor, (or in most cases a series (See Datasheet)"